# EAGLE library part I2C_6 (library robot)
I2C 6 pin HE10 connector
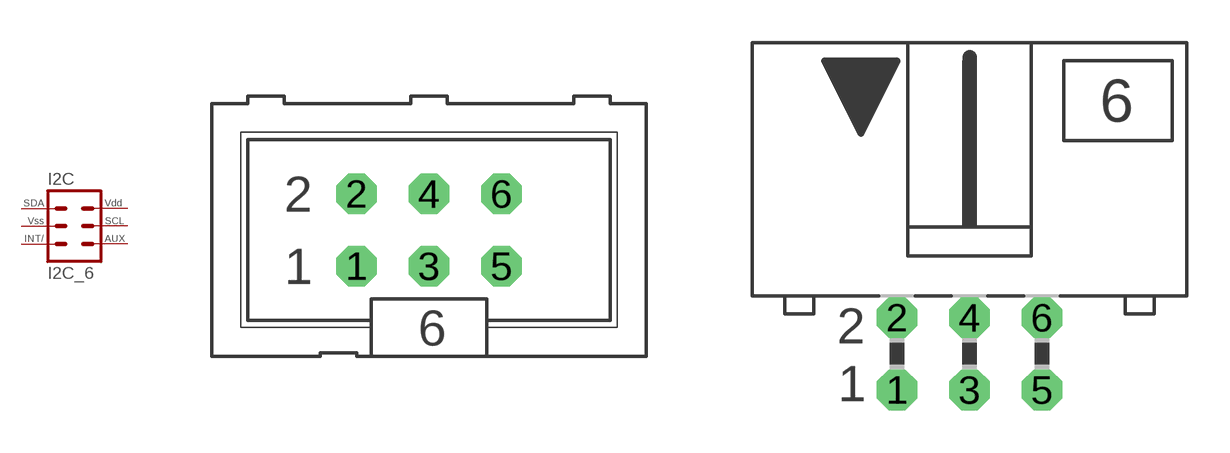
[diagram p2: symbol with the pads of ML6; footprints ML6, ML6L]

Designator prefix I2C

## I2C_6  [ML6]
1  SDA  pas
2  VDD  pas
3  VSS  pas
4  SCL  pas
5  INT/  pas
6  AUX  pas

## I2C_6L  [ML6L]
Pads as for ML6

## Footprint ML6 (pad centres in mm)
HARTING
drill 0.914 octagon: 1 -2.54,-1.27; 2 -2.54,1.27; 3 0,-1.27; 4 0,1.27; 5 2.54,-1.27; 6 2.54,1.27

## Footprint ML6L (pad centres in mm)
HARTING
drill 0.914 octagon: 1 -2.54,-1.27; 2 -2.54,1.27; 3 0,-1.27; 4 0,1.27; 5 2.54,-1.27; 6 2.54,1.27